# Altium schematic symbol library 电控开关.SchLib: 8 symbols
Pins are listed as number, name and electrical type; pins without a type are passive.

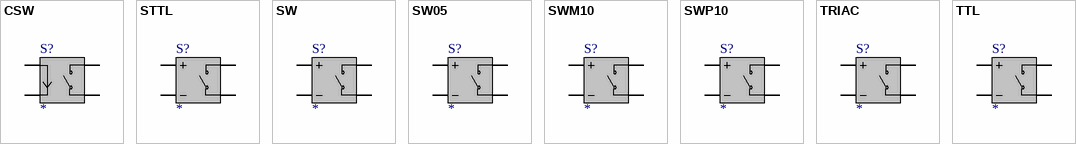
[diagram p0: symbols CSW to TTL]

## CSW
designator S?
Current Controlled Switch
simulation model CSW (CCSW)
pins: 1 N1+, 2 N1-, 3 N2+, 4 N2-

## STTL
designator S?
Voltage Controlled Switch
simulation model STTL (VCSW)
pins: 1 N1+, 2 N1-, 3 N2+, 4 N2-

## SW
designator S?
Voltage Controlled Switch
simulation model SW (VCSW)
pins: 1 N1+, 2 N1-, 3 N2+, 4 N2-

## SW05
designator S?
Voltage Controlled Switch
simulation model SW05 (VCSW)
pins: 1 N1+, 2 N1-, 3 N2+, 4 N2-

## SWM10
designator S?
Voltage Controlled Switch
simulation model SWM10 (VCSW)
pins: 1 N1+, 2 N1-, 3 N2+, 4 N2-

## SWP10
designator S?
Voltage Controlled Switch
simulation model SWP10 (VCSW)
pins: 1 N1+, 2 N1-, 3 N2+, 4 N2-

## TRIAC
designator S?
Voltage Controlled Switch
simulation model TRIAC (VCSW)
pins: 1 N1+, 2 N1-, 3 N2+, 4 N2-

## TTL
designator S?
Voltage Controlled Switch
simulation model TTL (VCSW)
pins: 1 N1+, 2 N1-, 3 N2+, 4 N2-